# Altium schematic symbol library BS270.SchLib: 1 symbol
Pins are listed as number, name and electrical type; pins without a type are passive.

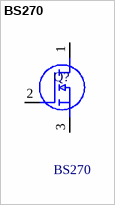
[diagram p0: symbol BS270]

## BS270
designator Q?
ON Semiconductor BS270 N-channel MOSFET, 400 mA, 60 V, 3-Pin TO-92; Manufacturer_Name: onsemi; Manufacturer_Part_Number: BS270; Mouser Part Number: 512-BS270; Mouser Price/Stock: https://www.mouser.co.uk/ProductDetail/ON-Semiconductor-Fairchild/BS270?qs=mdiO5HdF0KgJ7MEJoJK3sA%3D%3D; Arrow Part Number: BS270; Arrow Price/Stock: https://www.arrow.com/en/products/bs270/on-semiconductor?region=nac; Datasheet Link: https://www.onsemi.com/pub/Collateral/BS270-D.PDF
footprint BS270
pins: 1 D, 2 G, 3 S